# EAGLE library part MAX14662_OCTAL_SPST_AN_SW (library cyberhedz)
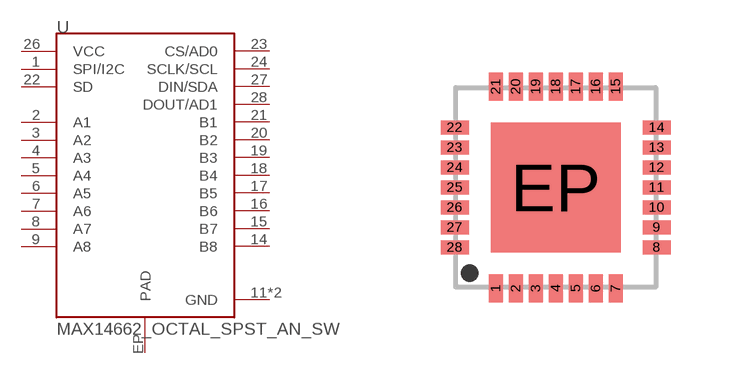
[diagram p14: symbol with the pads of 28TQFN; footprint 28TQFN]

Designator prefix -

## MAX14662_OCTAL_SPST_AN_SW  [28TQFN]
1  SPI/I2C
2  A1
3  A2
4  A3
5  A4
6  A5
7  A6
8  A7
9  A8
11  GND
14  B8
15  B7
16  B6
17  B5
18  B4
19  B3
20  B2
21  B1
22  SD
23  CS/AD0
24  SCLK/SCL
25  GND
26  VCC
27  DIN/SDA
28  DOUT/AD1
EP  PAD

## Footprint 28TQFN (pad centres in mm)
smd 0.35 x 0.7: 1 -1.5,-2.525; 2 -1,-2.525; 3 -0.5,-2.525; 4 0,-2.525; 5 0.5,-2.525; 6 1,-2.525; 7 1.5,-2.525; 15 1.5,2.525; 16 1,2.525; 17 0.5,2.525; 18 0,2.525; 19 -0.5,2.525; 20 -1,2.525; 21 -1.5,2.525
smd 0.7 x 0.35: 8 2.525,-1.5; 9 2.525,-1; 10 2.525,-0.5; 11 2.525,0; 12 2.525,0.5; 13 2.525,1; 14 2.525,1.5; 22 -2.525,1.5; 23 -2.525,1; 24 -2.525,0.5; 25 -2.525,0; 26 -2.525,-0.5; 27 -2.525,-1; 28 -2.525,-1.5
smd 3.25 x 3.25: EP 0,0